# Altium integrated library ON Semi Interface Line Receiver.IntLib: 36 symbols
Pins are listed as number, name and electrical type; pins without a type are passive.

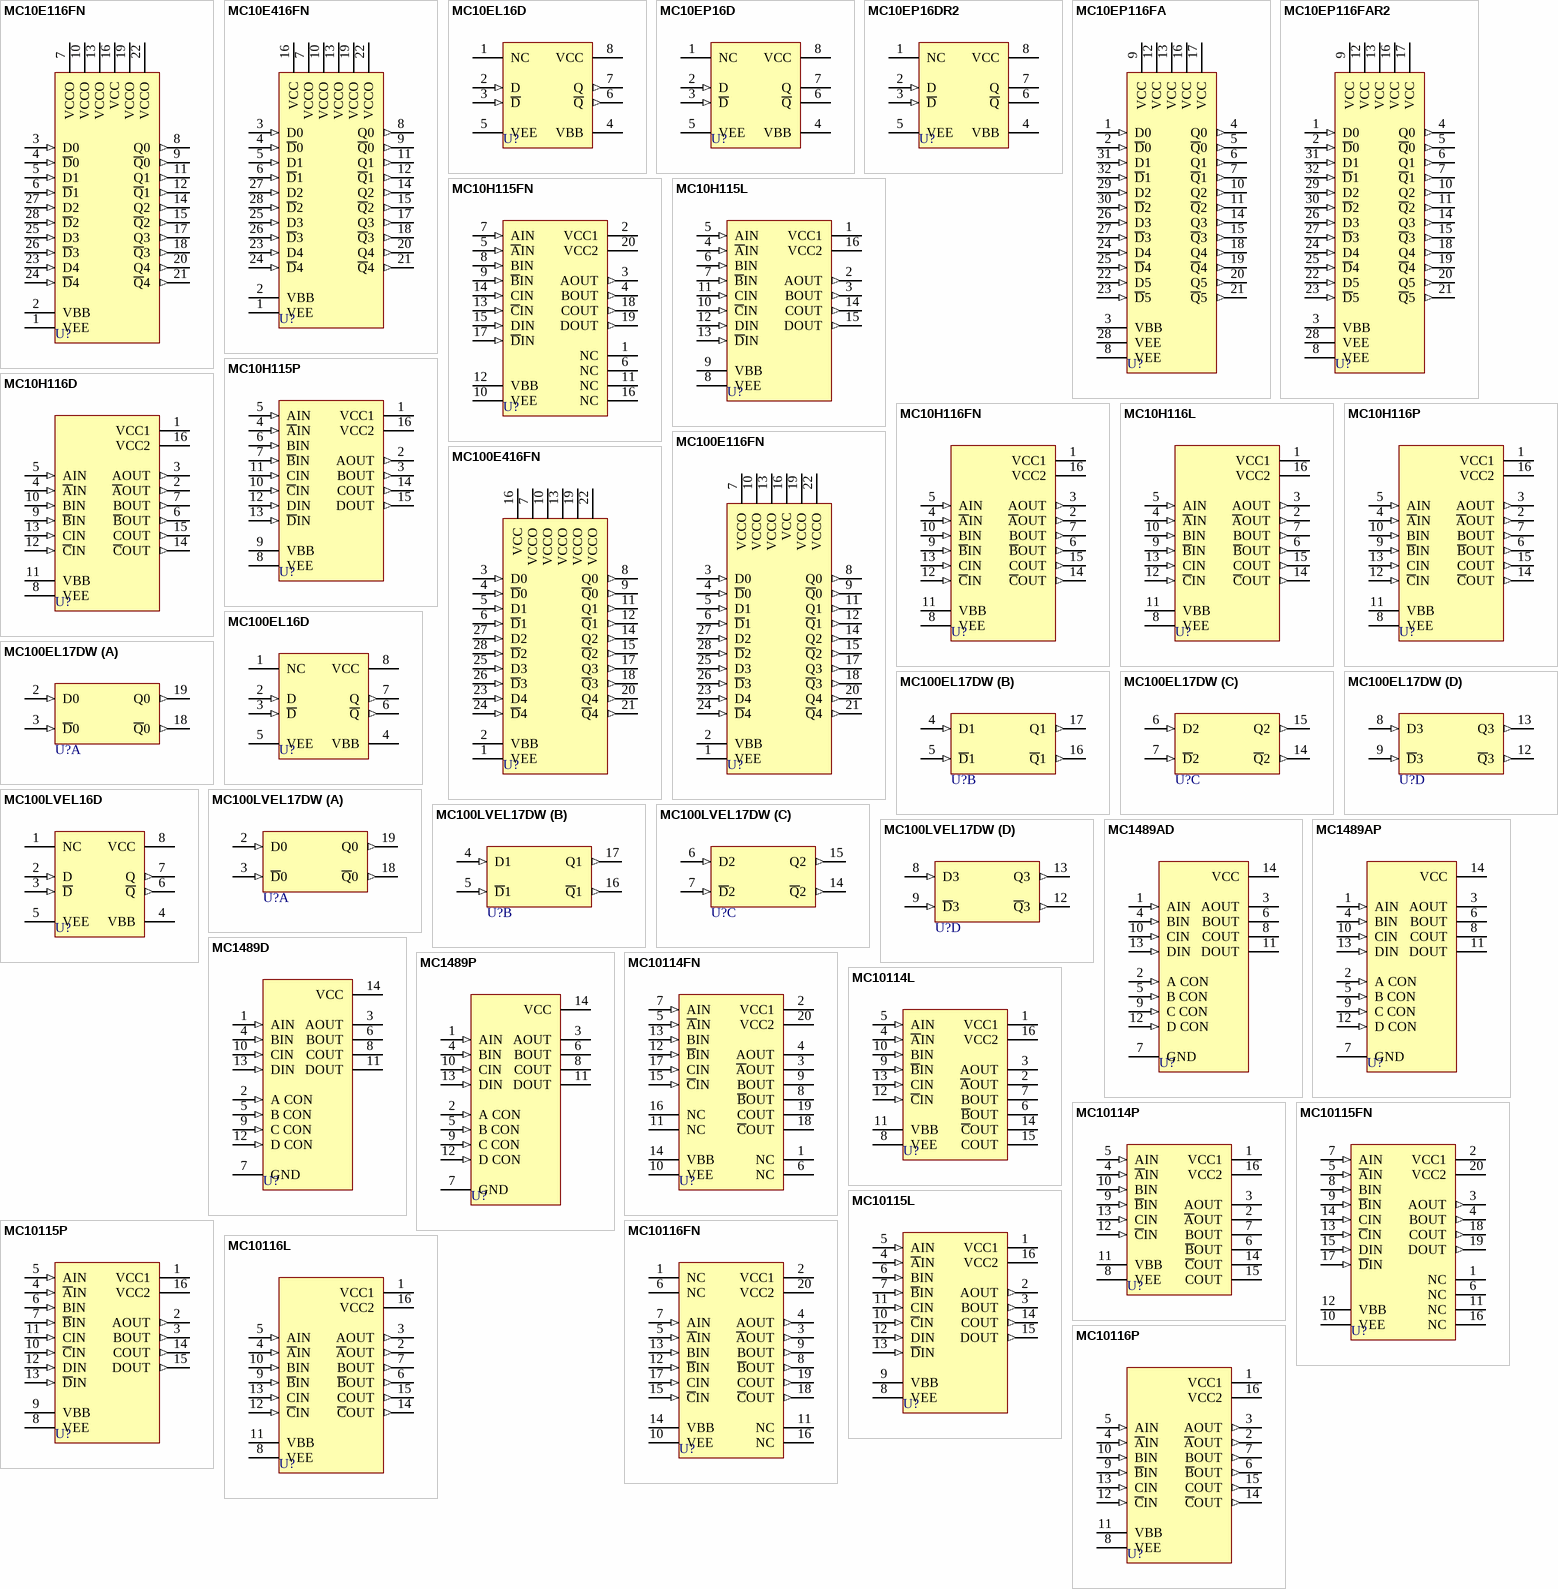
[diagram p0: symbols MC10E116FN to MC10116P]

## MC10E116FN
designator U?
Quint Differential Line Receiver; Published: 15-Apr-2002; LatestRevisionDate: 13-Apr-2006; LatestRevisionNote: IPC-7351 Footprint Added.; DatasheetVersion: 1996; PackageVersion: Feb-2000; PackageReference: 776-02; Publisher: Altium Limited; PackageDescription: 28-Pin Leaded Chip Carrier 1.27 mm Pitch; ComponentLink1Description: Manufacturer Link; ComponentLink1URL: http://www.onsemi.com/; ComponentLink2Description: Datasheet; ComponentLink2URL: http://www.onsemi.com/pub/Collateral/MC10E116-D.PDF
footprint 776-02_N (Leaded Chip Carrier, 28-Leads, Body 11.5x11.5mm, Pitch 1.27mm, IPC Medium Density)
footprint 776-02_L (Leaded Chip Carrier, 28-Leads, Body 11.5x11.5mm, Pitch 1.27mm, IPC High Density)
footprint 776-02_M (Leaded Chip Carrier, 28-Leads, Body 11.5x11.5mm, Pitch 1.27mm, IPC Low Density)
pins: 1 VEE (power), 2 VBB (power), 3 D0 (in), 4 ~{D}0 (in), 5 D1 (in), 6 ~{D}1 (in), 7 VCCO (power), 8 Q0 (out), 9 ~{Q}0 (out), 10 VCCO (power), 11 Q1 (out), 12 ~{Q}1 (out), 13 VCCO (power), 14 Q2 (out), 15 ~{Q}2 (out), 16 VCC (power), 17 Q3 (out), 18 ~{Q}3 (out), 19 VCCO (power), 20 Q4 (out), 21 ~{Q}4 (out), 22 VCCO (power), 23 D4 (in), 24 ~{D}4 (in), 25 D3 (in), 26 ~{D}3 (in), 27 D2 (in), 28 ~{D}2 (in)

## MC10E416FN
designator U?
Quint Differential Line Receiver; Published: 15-Apr-2002; LatestRevisionDate: 13-Apr-2006; LatestRevisionNote: IPC-7351 Footprint Added.; DatasheetVersion: 1996; PackageVersion: Feb-2000; PackageReference: 776-02; Publisher: Altium Limited; PackageDescription: 28-Pin Leaded Chip Carrier 1.27 mm Pitch; ComponentLink1Description: Manufacturer Link; ComponentLink1URL: http://www.onsemi.com/; ComponentLink2Description: Datasheet; ComponentLink2URL: http://www.onsemi.com/pub/Collateral/MC10E416-D.PDF
footprint 776-02_N (Leaded Chip Carrier, 28-Leads, Body 11.5x11.5mm, Pitch 1.27mm, IPC Medium Density)
footprint 776-02_L (Leaded Chip Carrier, 28-Leads, Body 11.5x11.5mm, Pitch 1.27mm, IPC High Density)
footprint 776-02_M (Leaded Chip Carrier, 28-Leads, Body 11.5x11.5mm, Pitch 1.27mm, IPC Low Density)
pins: 1 VEE (power), 2 VBB (power), 3 D0 (in), 4 ~{D}0 (in), 5 D1 (in), 6 ~{D}1 (in), 7 VCCO (power), 8 Q0 (out), 9 ~{Q}0 (out), 10 VCCO (power), 11 Q1 (out), 12 ~{Q}1 (out), 13 VCCO (power), 14 Q2 (out), 15 ~{Q}2 (out), 16 VCC (power), 17 Q3 (out), 18 ~{Q}3 (out), 19 VCCO (power), 20 Q4 (out), 21 ~{Q}4 (out), 22 VCCO (power), 23 D4 (in), 24 ~{D}4 (in), 25 D3 (in), 26 ~{D}3 (in), 27 D2 (in), 28 ~{D}2 (in)

## MC10EL16D
designator U?
Differential Receiver; Published: 15-Apr-2002; LatestRevisionDate: 13-Apr-2006; LatestRevisionNote: IPC-7351 Footprint Added.; DatasheetVersion: 1996; PackageVersion: 1998; PackageReference: 751-05; Publisher: Altium Limited; PackageDescription: 8-Pin Small Outline Integrated Circuit 1.27 mm Pitch; Code_JEDEC: MS-012-AA; Code_IPC: SOIC127P600-8; ComponentLink1Description: Manufacturer Link; ComponentLink1URL: http://www.onsemi.com/; ComponentLink2Description: Datasheet; ComponentLink2URL: http://www.onsemi.com/pub/Collateral/MC10EL16-D.PDF
footprint 751-05_N (SOIC, 8-Leads, Body 4.9x3.9mm, Pitch 1.27mm, IPC Medium Density)
footprint 751-05_L (SOIC, 8-Leads, Body 4.9x3.9mm, Pitch 1.27mm, IPC High Density)
footprint 751-05_M (SOIC, 8-Leads, Body 4.9x3.9mm, Pitch 1.27mm, IPC Low Density)
pins: 1 NC, 2 D (in), 3 ~{D} (in), 4 VBB (power), 5 VEE (power), 6 ~{Q} (out), 7 Q (out), 8 VCC (power)

## MC10EP16D
designator U?
Differential Receiver; Published: 15-Apr-2002; LatestRevisionDate: 13-Apr-2006; LatestRevisionNote: IPC-7351 Footprint Added.; DatasheetVersion: Sep-1999; PackageVersion: Sep-1999; PackageReference: 751-06; Publisher: Altium Limited; PackageDescription: 8-Pin Small Outline Integrated Circuit 1.27 mm Pitch; Code_JEDEC: MS-012-AA; Code_IPC: SOIC127P600-8; ComponentLink1Description: Manufacturer Link; ComponentLink1URL: http://www.onsemi.com/; ComponentLink2Description: Datasheet; ComponentLink2URL: http://www.onsemi.com/pub/Collateral/MC10EP16-D.PDF
footprint 751-06_N (SOIC, 8-Leads, Body 4.9x3.9mm, Pitch 1.27mm, IPC Medium Density)
footprint 751-06_L (SOIC, 8-Leads, Body 4.9x3.9mm, Pitch 1.27mm, IPC High Density)
footprint 751-06_M (SOIC, 8-Leads, Body 4.9x3.9mm, Pitch 1.27mm, IPC Low Density)
pins: 1 NC, 2 D (in), 3 ~{D} (in), 4 VBB (power), 5 VEE (power), 6 ~{Q} (oe), 7 Q (oe), 8 VCC (power)

## MC10EP16DR2
designator U?
Differential Receiver; Published: 15-Apr-2002; LatestRevisionDate: 13-Apr-2006; LatestRevisionNote: IPC-7351 Footprint Added.; DatasheetVersion: Sep-1999; PackageVersion: Sep-1999; PackageReference: 751-06; Publisher: Altium Limited; PackageDescription: 8-Pin Small Outline Integrated Circuit 1.27 mm Pitch; Code_JEDEC: MS-012-AA; Code_IPC: SOIC127P600-8; ComponentLink1Description: Manufacturer Link; ComponentLink1URL: http://www.onsemi.com/; ComponentLink2Description: Datasheet; ComponentLink2URL: http://www.onsemi.com/pub/Collateral/MC10EP16-D.PDF
footprint 751-06_N (SOIC, 8-Leads, Body 4.9x3.9mm, Pitch 1.27mm, IPC Medium Density)
footprint 751-06_L (SOIC, 8-Leads, Body 4.9x3.9mm, Pitch 1.27mm, IPC High Density)
footprint 751-06_M (SOIC, 8-Leads, Body 4.9x3.9mm, Pitch 1.27mm, IPC Low Density)
pins: 1 NC, 2 D (in), 3 ~{D} (in), 4 VBB (power), 5 VEE (power), 6 ~{Q} (oe), 7 Q (oe), 8 VCC (power)

## MC10EP116FA
designator U?
Hex Differential Line Receiver; Published: 15-Apr-2002; LatestRevisionDate: 13-Apr-2006; LatestRevisionNote: IPC-7351 Footprint Added.; DatasheetVersion: Mar-2000; PackageVersion: May-2000; PackageReference: 873A-02; Publisher: Altium Limited; PackageDescription: 32-Pin Thin Quad Flat Pack 0.8 mm Pitch; ComponentLink1Description: Manufacturer Link; ComponentLink1URL: http://www.onsemi.com/; ComponentLink2Description: Datasheet; ComponentLink2URL: http://www.onsemi.com/pub/Collateral/MC10EP116-D.PDF
footprint 873A-02_N (Thin QFP, 32-Leads, Body 7x7mm, Pitch 0.8mm, IPC Medium Density)
footprint 873A-02_L (Thin QFP, 32-Leads, Body 7x7mm, Pitch 0.8mm, IPC High Density)
footprint 873A-02_M (Thin QFP, 32-Leads, Body 7x7mm, Pitch 0.8mm, IPC Low Density)
pins: 1 D0 (in), 2 ~{D}0 (in), 3 VBB (power), 4 Q0 (out), 5 ~{Q}0 (out), 6 Q1 (out), 7 ~{Q}1 (out), 8 VEE (power), 9 VCC (power), 10 Q2 (out), 11 ~{Q}2 (out), 12 VCC (power), 13 VCC (power), 14 Q3 (out), 15 ~{Q}3 (out), 16 VCC (power), 17 VCC (power), 18 Q4 (out), 19 ~{Q}4 (out), 20 Q5 (out), 21 ~{Q}5 (out), 22 D5 (in), 23 ~{D}5 (in), 24 D4 (in), 25 ~{D}4 (in), 26 D3 (in), 27 ~{D}3 (in), 28 VEE (power), 29 D2 (in), 30 ~{D}2 (in), 31 D1 (in), 32 ~{D}1 (in)

## MC10EP116FAR2
designator U?
Hex Differential Line Receiver; Published: 15-Apr-2002; LatestRevisionDate: 13-Apr-2006; LatestRevisionNote: IPC-7351 Footprint Added.; DatasheetVersion: Mar-2000; PackageVersion: May-2000; PackageReference: 873A-02; Publisher: Altium Limited; PackageDescription: 32-Pin Thin Quad Flat Pack 0.8 mm Pitch; ComponentLink1Description: Manufacturer Link; ComponentLink1URL: http://www.onsemi.com/; ComponentLink2Description: Datasheet; ComponentLink2URL: http://www.onsemi.com/pub/Collateral/MC10EP116-D.PDF
footprint 873A-02_N (Thin QFP, 32-Leads, Body 7x7mm, Pitch 0.8mm, IPC Medium Density)
footprint 873A-02_L (Thin QFP, 32-Leads, Body 7x7mm, Pitch 0.8mm, IPC High Density)
footprint 873A-02_M (Thin QFP, 32-Leads, Body 7x7mm, Pitch 0.8mm, IPC Low Density)
pins: 1 D0 (in), 2 ~{D}0 (in), 3 VBB (power), 4 Q0 (out), 5 ~{Q}0 (out), 6 Q1 (out), 7 ~{Q}1 (out), 8 VEE (power), 9 VCC (power), 10 Q2 (out), 11 ~{Q}2 (out), 12 VCC (power), 13 VCC (power), 14 Q3 (out), 15 ~{Q}3 (out), 16 VCC (power), 17 VCC (power), 18 Q4 (out), 19 ~{Q}4 (out), 20 Q5 (out), 21 ~{Q}5 (out), 22 D5 (in), 23 ~{D}5 (in), 24 D4 (in), 25 ~{D}4 (in), 26 D3 (in), 27 ~{D}3 (in), 28 VEE (power), 29 D2 (in), 30 ~{D}2 (in), 31 D1 (in), 32 ~{D}1 (in)

## MC10H115FN
designator U?
Quad Line Receiver; Published: 15-Apr-2002; LatestRevisionDate: 13-Apr-2006; LatestRevisionNote: IPC-7351 Footprint Added.; DatasheetVersion: 1996; PackageVersion: 1996; PackageReference: 775-02; Publisher: Altium Limited; PackageDescription: 20-Pin Leaded Chip Carrier 1.27 mm Pitch; ComponentLink1Description: Manufacturer Link; ComponentLink1URL: http://www.onsemi.com/; ComponentLink2Description: Datasheet; ComponentLink2URL: http://www.onsemi.com/pub/Collateral/MC10H115-D.PDF
footprint 775-02_N (Leaded Chip Carrier, 20-Leads, Body 9x9mm, Pitch 1.27mm, IPC Medium Density)
footprint 775-02_L (Leaded Chip Carrier, 20-Leads, Body 9x9mm, Pitch 1.27mm, IPC High Density)
footprint 775-02_M (Leaded Chip Carrier, 20-Leads, Body 9x9mm, Pitch 1.27mm, IPC Low Density)
pins: 1 NC, 2 VCC1 (power), 3 AOUT (out), 4 BOUT (out), 5 ~{A}IN (in), 6 NC, 7 AIN (in), 8 BIN (in), 9 ~{B}IN (in), 10 VEE (power), 11 NC, 12 VBB (power), 13 ~{C}IN (in), 14 CIN (in), 15 DIN (in), 16 NC, 17 ~{D}IN (in), 18 COUT (out), 19 DOUT (out), 20 VCC2 (power)

## MC10H115L
designator U?
Quad Line Receiver; Published: 15-Apr-2002; DatasheetVersion: 1996; PackageVersion: 1996; PackageReference: 620-10; Publisher: Altium Limited; PackageDescription: DIP; 16 Leads; Row Spacing 7.62 mm; Pitch 2.54 mm; ComponentLink1Description: Manufacturer Link; ComponentLink1URL: http://www.onsemi.com/; ComponentLink2Description: Datasheet; ComponentLink2URL: http://www.onsemi.com/pub/Collateral/MC10H115-D.PDF
footprint 620-10 (DIP; 16 Leads; Row Spacing 7.62 mm; Pitch 2.54 mm)
pins: 1 VCC1 (power), 2 AOUT (out), 3 BOUT (out), 4 ~{A}IN (in), 5 AIN (in), 6 BIN (in), 7 ~{B}IN (in), 8 VEE (power), 9 VBB (power), 10 ~{C}IN (in), 11 CIN (in), 12 DIN (in), 13 ~{D}IN (in), 14 COUT (out), 15 DOUT (out), 16 VCC2 (power)

## MC10H115P
designator U?
Quad Line Receiver; Published: 15-Apr-2002; DatasheetVersion: 1996; PackageVersion: Apr-2000; PackageReference: 648-08; Publisher: Altium Limited; PackageDescription: DIP; 16 Leads; Row Spacing 7.62 mm; Pitch 2.54 mm; Code_JEDEC: MS-001-BB; ComponentLink1Description: Manufacturer Link; ComponentLink1URL: http://www.onsemi.com/; ComponentLink2Description: Datasheet; ComponentLink2URL: http://www.onsemi.com/pub/Collateral/MC10H115-D.PDF
footprint 648-08 (DIP; 16 Leads; Row Spacing 7.62 mm; Pitch 2.54 mm)
pins: 1 VCC1 (power), 2 AOUT (out), 3 BOUT (out), 4 ~{A}IN (in), 5 AIN (in), 6 BIN (in), 7 ~{B}IN (in), 8 VEE (power), 9 VBB (power), 10 ~{C}IN (in), 11 CIN (in), 12 DIN (in), 13 ~{D}IN (in), 14 COUT (out), 15 DOUT (out), 16 VCC2 (power)

## MC10H116D
designator U?
Triple Line Receiver; Published: 15-Apr-2002; LatestRevisionDate: 13-Apr-2006; LatestRevisionNote: IPC-7351 Footprint Added.; DatasheetVersion: 1996; PackageVersion: Oct-1999; PackageReference: 751B-05; Publisher: Altium Limited; PackageDescription: 16-Pin Small Outline Integrated Circuit 1.27 mm Pitch; Code_JEDEC: MS-012-AC; Code_IPC: SOIC127P600-16; ComponentLink1Description: Manufacturer Link; ComponentLink1URL: http://www.onsemi.com/; ComponentLink2Description: Datasheet; ComponentLink2URL: http://www.onsemi.com/pub/Collateral/MC10H116-D.PDF
footprint 751B-05_N (SOIC, 16-Leads, Body 9.9x3.9mm, Pitch 1.27mm, IPC Medium Density)
footprint 751B-05_L (SOIC, 16-Leads, Body 9.9x3.9mm, Pitch 1.27mm, IPC High Density)
footprint 751B-05_M (SOIC, 16-Leads, Body 9.9x3.9mm, Pitch 1.27mm, IPC Low Density)
pins: 1 VCC1 (power), 2 ~{A}OUT (out), 3 AOUT (out), 4 ~{A}IN (in), 5 AIN (in), 6 ~{B}OUT (out), 7 BOUT (out), 8 VEE (power), 9 ~{B}IN (in), 10 BIN (in), 11 VBB (power), 12 ~{C}IN (in), 13 CIN (in), 14 ~{C}OUT (out), 15 COUT (out), 16 VCC2 (power)

## MC10H116FN
designator U?
Triple Line Receiver; Published: 15-Apr-2002; LatestRevisionDate: 13-Apr-2006; LatestRevisionNote: IPC-7351 Footprint Added.; DatasheetVersion: 1996; PackageVersion: 1996; PackageReference: 775-02; Publisher: Altium Limited; PackageDescription: 20-Pin Leaded Chip Carrier 1.27 mm Pitch; ComponentLink1Description: Manufacturer Link; ComponentLink1URL: http://www.onsemi.com/; ComponentLink2Description: Datasheet; ComponentLink2URL: http://www.onsemi.com/pub/Collateral/MC10H116-D.PDF
footprint 775-02_N (Leaded Chip Carrier, 20-Leads, Body 9x9mm, Pitch 1.27mm, IPC Medium Density)
footprint 775-02_L (Leaded Chip Carrier, 20-Leads, Body 9x9mm, Pitch 1.27mm, IPC High Density)
footprint 775-02_M (Leaded Chip Carrier, 20-Leads, Body 9x9mm, Pitch 1.27mm, IPC Low Density)
pins: 1 VCC1 (power), 2 ~{A}OUT (out), 3 AOUT (out), 4 ~{A}IN (in), 5 AIN (in), 6 ~{B}OUT (out), 7 BOUT (out), 8 VEE (power), 9 ~{B}IN (in), 10 BIN (in), 11 VBB (power), 12 ~{C}IN (in), 13 CIN (in), 14 ~{C}OUT (out), 15 COUT (out), 16 VCC2 (power)

## MC10H116L
designator U?
Triple Line Receiver; Published: 15-Apr-2002; DatasheetVersion: 1996; PackageVersion: 1996; PackageReference: 620-10; Publisher: Altium Limited; PackageDescription: DIP; 16 Leads; Row Spacing 7.62 mm; Pitch 2.54 mm; ComponentLink1Description: Manufacturer Link; ComponentLink1URL: http://www.onsemi.com/; ComponentLink2Description: Datasheet; ComponentLink2URL: http://www.onsemi.com/pub/Collateral/MC10H116-D.PDF
footprint 620-10 (DIP; 16 Leads; Row Spacing 7.62 mm; Pitch 2.54 mm)
pins: 1 VCC1 (power), 2 ~{A}OUT (out), 3 AOUT (out), 4 ~{A}IN (in), 5 AIN (in), 6 ~{B}OUT (out), 7 BOUT (out), 8 VEE (power), 9 ~{B}IN (in), 10 BIN (in), 11 VBB (power), 12 ~{C}IN (in), 13 CIN (in), 14 ~{C}OUT (out), 15 COUT (out), 16 VCC2 (power)

## MC10H116P
designator U?
Triple Line Receiver; Published: 15-Apr-2002; DatasheetVersion: 1996; PackageVersion: Apr-2000; PackageReference: 648-08; Publisher: Altium Limited; PackageDescription: DIP; 16 Leads; Row Spacing 7.62 mm; Pitch 2.54 mm; Code_JEDEC: MS-001-BB; ComponentLink1Description: Manufacturer Link; ComponentLink1URL: http://www.onsemi.com/; ComponentLink2Description: Datasheet; ComponentLink2URL: http://www.onsemi.com/pub/Collateral/MC10H116-D.PDF
footprint 648-08 (DIP; 16 Leads; Row Spacing 7.62 mm; Pitch 2.54 mm)
pins: 1 VCC1 (power), 2 ~{A}OUT (out), 3 AOUT (out), 4 ~{A}IN (in), 5 AIN (in), 6 ~{B}OUT (out), 7 BOUT (out), 8 VEE (power), 9 ~{B}IN (in), 10 BIN (in), 11 VBB (power), 12 ~{C}IN (in), 13 CIN (in), 14 ~{C}OUT (out), 15 COUT (out), 16 VCC2 (power)

## MC100E116FN
designator U?
Quint Differential Line Receiver; Published: 15-Apr-2002; LatestRevisionDate: 13-Apr-2006; LatestRevisionNote: IPC-7351 Footprint Added.; DatasheetVersion: 1996; PackageVersion: Feb-2000; PackageReference: 776-02; Publisher: Altium Limited; PackageDescription: 28-Pin Leaded Chip Carrier 1.27 mm Pitch; ComponentLink1Description: Manufacturer Link; ComponentLink1URL: http://www.onsemi.com/; ComponentLink2Description: Datasheet; ComponentLink2URL: http://www.onsemi.com/pub/Collateral/MC10E116-D.PDF
footprint 776-02_N (Leaded Chip Carrier, 28-Leads, Body 11.5x11.5mm, Pitch 1.27mm, IPC Medium Density)
footprint 776-02_L (Leaded Chip Carrier, 28-Leads, Body 11.5x11.5mm, Pitch 1.27mm, IPC High Density)
footprint 776-02_M (Leaded Chip Carrier, 28-Leads, Body 11.5x11.5mm, Pitch 1.27mm, IPC Low Density)
pins: 1 VEE (power), 2 VBB (power), 3 D0 (in), 4 ~{D}0 (in), 5 D1 (in), 6 ~{D}1 (in), 7 VCCO (power), 8 Q0 (out), 9 ~{Q}0 (out), 10 VCCO (power), 11 Q1 (out), 12 ~{Q}1 (out), 13 VCCO (power), 14 Q2 (out), 15 ~{Q}2 (out), 16 VCC (power), 17 Q3 (out), 18 ~{Q}3 (out), 19 VCCO (power), 20 Q4 (out), 21 ~{Q}4 (out), 22 VCCO (power), 23 D4 (in), 24 ~{D}4 (in), 25 D3 (in), 26 ~{D}3 (in), 27 D2 (in), 28 ~{D}2 (in)

## MC100E416FN
designator U?
Quint Differential Line Receiver; Published: 15-Apr-2002; LatestRevisionDate: 13-Apr-2006; LatestRevisionNote: IPC-7351 Footprint Added.; DatasheetVersion: 1996; PackageVersion: Feb-2000; PackageReference: 776-02; Publisher: Altium Limited; PackageDescription: 28-Pin Leaded Chip Carrier 1.27 mm Pitch; ComponentLink1Description: Manufacturer Link; ComponentLink1URL: http://www.onsemi.com/; ComponentLink2Description: Datasheet; ComponentLink2URL: http://www.onsemi.com/pub/Collateral/MC10E416-D.PDF
footprint 776-02_N (Leaded Chip Carrier, 28-Leads, Body 11.5x11.5mm, Pitch 1.27mm, IPC Medium Density)
footprint 776-02_L (Leaded Chip Carrier, 28-Leads, Body 11.5x11.5mm, Pitch 1.27mm, IPC High Density)
footprint 776-02_M (Leaded Chip Carrier, 28-Leads, Body 11.5x11.5mm, Pitch 1.27mm, IPC Low Density)
pins: 1 VEE (power), 2 VBB (power), 3 D0 (in), 4 ~{D}0 (in), 5 D1 (in), 6 ~{D}1 (in), 7 VCCO (power), 8 Q0 (out), 9 ~{Q}0 (out), 10 VCCO (power), 11 Q1 (out), 12 ~{Q}1 (out), 13 VCCO (power), 14 Q2 (out), 15 ~{Q}2 (out), 16 VCC (power), 17 Q3 (out), 18 ~{Q}3 (out), 19 VCCO (power), 20 Q4 (out), 21 ~{Q}4 (out), 22 VCCO (power), 23 D4 (in), 24 ~{D}4 (in), 25 D3 (in), 26 ~{D}3 (in), 27 D2 (in), 28 ~{D}2 (in)

## MC100EL16D
designator U?
Differential Receiver; Published: 15-Apr-2002; LatestRevisionDate: 13-Apr-2006; LatestRevisionNote: IPC-7351 Footprint Added.; DatasheetVersion: 1996; PackageVersion: 1998; PackageReference: 751-05; Publisher: Altium Limited; PackageDescription: 8-Pin Small Outline Integrated Circuit 1.27 mm Pitch; Code_JEDEC: MS-012-AA; Code_IPC: SOIC127P600-8; ComponentLink1Description: Manufacturer Link; ComponentLink1URL: http://www.onsemi.com/; ComponentLink2Description: Datasheet; ComponentLink2URL: http://www.onsemi.com/pub/Collateral/MC10EL16-D.PDF
footprint 751-05_N (SOIC, 8-Leads, Body 4.9x3.9mm, Pitch 1.27mm, IPC Medium Density)
footprint 751-05_L (SOIC, 8-Leads, Body 4.9x3.9mm, Pitch 1.27mm, IPC High Density)
footprint 751-05_M (SOIC, 8-Leads, Body 4.9x3.9mm, Pitch 1.27mm, IPC Low Density)
pins: 1 NC, 2 D (in), 3 ~{D} (in), 4 VBB (power), 5 VEE (power), 6 ~{Q} (out), 7 Q (out), 8 VCC (power)

## MC100EL17DW
designator U?
Low-Voltage Quad Differential Receiver; Published: 15-Apr-2002; LatestRevisionDate: 13-Apr-2006; LatestRevisionNote: IPC-7351 Footprint Added.; DatasheetVersion: 1996; PackageReference: 751D-04; Publisher: Altium Limited; PackageDescription: 20-Pin Small Outline Integrated Circuit 1.27 mm Pitch; ComponentLink1Description: Manufacturer Link; ComponentLink1URL: http://www.onsemi.com/; ComponentLink2Description: Datasheet; ComponentLink2URL: http://www.onsemi.com/pub/Collateral/MC100EL17-D.PDF
footprint 751D-04_N (SOIC, 20-Leads, Body 12.8x7.5mm, Pitch 1.27mm, IPC Medium Density)
footprint 751D-04_L (SOIC, 20-Leads, Body 12.8x7.5mm, Pitch 1.27mm, IPC High Density)
footprint 751D-04_M (SOIC, 20-Leads, Body 12.8x7.5mm, Pitch 1.27mm, IPC Low Density)
pins on every part: 1 VCC (power) hidden to VCC, 10 VBB (power) hidden to VBB, 11 VEE (power) hidden to VEE, 20 VCC (power) hidden to VCC
part A pins: 2 D0 (in), 3 ~{D}0 (in), 18 ~{Q}0 (out), 19 Q0 (out)
part B pins: 4 D1 (in), 5 ~{D}1 (in), 16 ~{Q}1 (out), 17 Q1 (out)
part C pins: 6 D2 (in), 7 ~{D}2 (in), 14 ~{Q}2 (out), 15 Q2 (out)
part D pins: 8 D3 (in), 9 ~{D}3 (in), 12 ~{Q}3 (out), 13 Q3 (out)

## MC100LVEL16D
designator U?
Differential Receiver; Published: 15-Apr-2002; LatestRevisionDate: 13-Apr-2006; LatestRevisionNote: IPC-7351 Footprint Added.; DatasheetVersion: 1996; PackageVersion: 1998; PackageReference: 751-05; Publisher: Altium Limited; PackageDescription: 8-Pin Small Outline Integrated Circuit 1.27 mm Pitch; Code_JEDEC: MS-012-AA; Code_IPC: SOIC127P600-8; ComponentLink1Description: Manufacturer Link; ComponentLink1URL: http://www.onsemi.com/; ComponentLink2Description: Datasheet; ComponentLink2URL: http://www.onsemi.com/pub/Collateral/MC100LVEL16-D.PDF
footprint 751-05_N (SOIC, 8-Leads, Body 4.9x3.9mm, Pitch 1.27mm, IPC Medium Density)
footprint 751-05_L (SOIC, 8-Leads, Body 4.9x3.9mm, Pitch 1.27mm, IPC High Density)
footprint 751-05_M (SOIC, 8-Leads, Body 4.9x3.9mm, Pitch 1.27mm, IPC Low Density)
pins: 1 NC, 2 D (in), 3 ~{D} (in), 4 VBB (power), 5 VEE (power), 6 ~{Q} (out), 7 Q (out), 8 VCC (power)

## MC100LVEL17DW
designator U?
Low-Voltage Quad Differential Receiver; Published: 15-Apr-2002; LatestRevisionDate: 13-Apr-2006; LatestRevisionNote: IPC-7351 Footprint Added.; DatasheetVersion: 1996; PackageReference: 751D-04; Publisher: Altium Limited; PackageDescription: 20-Pin Small Outline Integrated Circuit 1.27 mm Pitch; ComponentLink1Description: Manufacturer Link; ComponentLink1URL: http://www.onsemi.com/; ComponentLink2Description: Datasheet; ComponentLink2URL: http://www.onsemi.com/pub/Collateral/MC100EL17-D.PDF
footprint 751D-04_N (SOIC, 20-Leads, Body 12.8x7.5mm, Pitch 1.27mm, IPC Medium Density)
footprint 751D-04_L (SOIC, 20-Leads, Body 12.8x7.5mm, Pitch 1.27mm, IPC High Density)
footprint 751D-04_M (SOIC, 20-Leads, Body 12.8x7.5mm, Pitch 1.27mm, IPC Low Density)
pins on every part: 1 VCC (power) hidden to VCC, 10 VBB (power) hidden to VBB, 11 VEE (power) hidden to VEE, 20 VCC (power) hidden to VCC
part A pins: 2 D0 (in), 3 ~{D}0 (in), 18 ~{Q}0 (out), 19 Q0 (out)
part B pins: 4 D1 (in), 5 ~{D}1 (in), 16 ~{Q}1 (out), 17 Q1 (out)
part C pins: 6 D2 (in), 7 ~{D}2 (in), 14 ~{Q}2 (out), 15 Q2 (out)
part D pins: 8 D3 (in), 9 ~{D}3 (in), 12 ~{Q}3 (out), 13 Q3 (out)

## MC1489AD
designator U?
Quad Line Receiver; Published: 15-Apr-2002; LatestRevisionDate: 13-Apr-2006; LatestRevisionNote: IPC-7351 Footprint Added.; DatasheetVersion: 1996; PackageReference: 751A-03; Publisher: Altium Limited; PackageDescription: 14-Pin Small Outline Integrated Circuit 1.27 mm Pitch; Code_JEDEC: MS-012-AB; Code_IPC: SOIC127P600-14; ComponentLink1Description: Manufacturer Link; ComponentLink1URL: http://www.onsemi.com/; ComponentLink2Description: Datasheet; ComponentLink2URL: http://www.onsemi.com/pub/Collateral/MC1489-D.PDF
footprint 751A-03_N (SOIC, 14-Leads, Body 8.7x3.9mm, Pitch 1.27mm, IPC Medium Density)
footprint 751A-03_L (SOIC, 14-Leads, Body 8.7x3.9mm, Pitch 1.27mm, IPC High Density)
footprint 751A-03_M (SOIC, 14-Leads, Body 8.7x3.9mm, Pitch 1.27mm, IPC Low Density)
pins: 1 AIN (in), 2 A CON (in), 3 AOUT (oc), 4 BIN (in), 5 B CON (in), 6 BOUT (oc), 7 GND (power), 8 COUT (oc), 9 C CON (in), 10 CIN (in), 11 DOUT (oc), 12 D CON (in), 13 DIN (in), 14 VCC (power)

## MC1489AP
designator U?
Quad Line Receiver; Published: 15-Apr-2002; DatasheetVersion: 1996; PackageVersion: 1995; PackageReference: 646-06; Publisher: Altium Limited; PackageDescription: DIP; 14 Leads; Row Spacing 7.62 mm; Pitch 2.54 mm; ComponentLink1Description: Manufacturer Link; ComponentLink1URL: http://www.onsemi.com/; ComponentLink2Description: Datasheet; ComponentLink2URL: http://www.onsemi.com/pub/Collateral/MC1489-D.PDF
footprint 646-06 (DIP; 14 Leads; Row Spacing 7.62 mm; Pitch 2.54 mm)
pins: 1 AIN (in), 2 A CON (in), 3 AOUT (oc), 4 BIN (in), 5 B CON (in), 6 BOUT (oc), 7 GND (power), 8 COUT (oc), 9 C CON (in), 10 CIN (in), 11 DOUT (oc), 12 D CON (in), 13 DIN (in), 14 VCC (power)

## MC1489D
designator U?
Quad Line Receiver; Published: 15-Apr-2002; LatestRevisionDate: 13-Apr-2006; LatestRevisionNote: IPC-7351 Footprint Added.; DatasheetVersion: 1996; PackageReference: 751A-03; Publisher: Altium Limited; PackageDescription: 14-Pin Small Outline Integrated Circuit 1.27 mm Pitch; Code_JEDEC: MS-012-AB; Code_IPC: SOIC127P600-14; ComponentLink1Description: Manufacturer Link; ComponentLink1URL: http://www.onsemi.com/; ComponentLink2Description: Datasheet; ComponentLink2URL: http://www.onsemi.com/pub/Collateral/MC1489-D.PDF
footprint 751A-03_N (SOIC, 14-Leads, Body 8.7x3.9mm, Pitch 1.27mm, IPC Medium Density)
footprint 751A-03_L (SOIC, 14-Leads, Body 8.7x3.9mm, Pitch 1.27mm, IPC High Density)
footprint 751A-03_M (SOIC, 14-Leads, Body 8.7x3.9mm, Pitch 1.27mm, IPC Low Density)
pins: 1 AIN (in), 2 A CON (in), 3 AOUT (oc), 4 BIN (in), 5 B CON (in), 6 BOUT (oc), 7 GND (power), 8 COUT (oc), 9 C CON (in), 10 CIN (in), 11 DOUT (oc), 12 D CON (in), 13 DIN (in), 14 VCC (power)

## MC1489P
designator U?
Quad Line Receiver; Published: 15-Apr-2002; DatasheetVersion: 1996; PackageVersion: 1995; PackageReference: 646-06; Publisher: Altium Limited; PackageDescription: DIP; 14 Leads; Row Spacing 7.62 mm; Pitch 2.54 mm; ComponentLink1Description: Manufacturer Link; ComponentLink1URL: http://www.onsemi.com/; ComponentLink2Description: Datasheet; ComponentLink2URL: http://www.onsemi.com/pub/Collateral/MC1489-D.PDF
footprint 646-06 (DIP; 14 Leads; Row Spacing 7.62 mm; Pitch 2.54 mm)
pins: 1 AIN (in), 2 A CON (in), 3 AOUT (oc), 4 BIN (in), 5 B CON (in), 6 BOUT (oc), 7 GND (power), 8 COUT (oc), 9 C CON (in), 10 CIN (in), 11 DOUT (oc), 12 D CON (in), 13 DIN (in), 14 VCC (power)

## MC10114FN
designator U?
Triple Line Receiver; ComponentAvailability: Not for New Design; Published: 15-Apr-2002; LatestRevisionDate: 13-Apr-2006; LatestRevisionNote: IPC-7351 Footprint Added.; DatasheetVersion: 1996; PackageVersion: 1996; PackageReference: 775-02; Publisher: Altium Limited; PackageDescription: 20-Pin Leaded Chip Carrier 1.27 mm Pitch; ComponentLink1Description: Manufacturer Link; ComponentLink1URL: http://www.onsemi.com/; ComponentLink2Description: Datasheet; ComponentLink2URL: http://www.onsemi.com/pub/Collateral/MC10114-D.PDF
footprint 775-02_N (Leaded Chip Carrier, 20-Leads, Body 9x9mm, Pitch 1.27mm, IPC Medium Density)
footprint 775-02_L (Leaded Chip Carrier, 20-Leads, Body 9x9mm, Pitch 1.27mm, IPC High Density)
footprint 775-02_M (Leaded Chip Carrier, 20-Leads, Body 9x9mm, Pitch 1.27mm, IPC Low Density)
pins: 1 NC, 2 VCC1 (power), 3 ~{A}OUT (oe), 4 AOUT (oe), 5 ~{A}IN (in), 6 NC, 7 AIN (in), 8 ~{B}OUT (oe), 9 BOUT (oe), 10 VEE (power), 11 NC, 12 ~{B}IN (in), 13 BIN (in), 14 VBB (power), 15 ~{C}IN (in), 16 NC, 17 CIN (in), 18 ~{C}OUT (oe), 19 COUT (oe), 20 VCC2 (power)

## MC10114L
designator U?
Triple Line Receiver; ComponentAvailability: Not for New Design; Published: 15-Apr-2002; DatasheetVersion: 1996; PackageVersion: 1996; PackageReference: 620-10; Publisher: Altium Limited; PackageDescription: DIP; 16 Leads; Row Spacing 7.62 mm; Pitch 2.54 mm; ComponentLink1Description: Manufacturer Link; ComponentLink1URL: http://www.onsemi.com/; ComponentLink2Description: Datasheet; ComponentLink2URL: http://www.onsemi.com/pub/Collateral/MC10114-D.PDF
footprint 620-10 (DIP; 16 Leads; Row Spacing 7.62 mm; Pitch 2.54 mm)
pins: 1 VCC1 (power), 2 ~{A}OUT (oe), 3 AOUT (oe), 4 ~{A}IN (in), 5 AIN (in), 6 ~{B}OUT (oe), 7 BOUT (oe), 8 VEE (power), 9 ~{B}IN (in), 10 BIN (in), 11 VBB (power), 12 ~{C}IN (in), 13 CIN (in), 14 ~{C}OUT (oe), 15 COUT (oe), 16 VCC2 (power)

## MC10114P
designator U?
Triple Line Receiver; ComponentAvailability: Not for New Design; Published: 15-Apr-2002; DatasheetVersion: 1996; PackageVersion: Apr-2000; PackageReference: 648-08; Publisher: Altium Limited; PackageDescription: DIP; 16 Leads; Row Spacing 7.62 mm; Pitch 2.54 mm; Code_JEDEC: MS-001-BB; ComponentLink1Description: Manufacturer Link; ComponentLink1URL: http://www.onsemi.com/; ComponentLink2Description: Datasheet; ComponentLink2URL: http://www.onsemi.com/pub/Collateral/MC10114-D.PDF
footprint 648-08 (DIP; 16 Leads; Row Spacing 7.62 mm; Pitch 2.54 mm)
pins: 1 VCC1 (power), 2 ~{A}OUT (oe), 3 AOUT (oe), 4 ~{A}IN (in), 5 AIN (in), 6 ~{B}OUT (oe), 7 BOUT (oe), 8 VEE (power), 9 ~{B}IN (in), 10 BIN (in), 11 VBB (power), 12 ~{C}IN (in), 13 CIN (in), 14 ~{C}OUT (oe), 15 COUT (oe), 16 VCC2 (power)

## MC10115FN
designator U?
Quad Line Receiver; Published: 15-Apr-2002; LatestRevisionDate: 13-Apr-2006; LatestRevisionNote: IPC-7351 Footprint Added.; DatasheetVersion: 1996; PackageVersion: 1996; PackageReference: 775-02; Publisher: Altium Limited; PackageDescription: 20-Pin Leaded Chip Carrier 1.27 mm Pitch; ComponentLink1Description: Manufacturer Link; ComponentLink1URL: http://www.onsemi.com/; ComponentLink2Description: Datasheet; ComponentLink2URL: http://www.onsemi.com/pub/Collateral/MC10115-D.PDF
footprint 775-02_N (Leaded Chip Carrier, 20-Leads, Body 9x9mm, Pitch 1.27mm, IPC Medium Density)
footprint 775-02_L (Leaded Chip Carrier, 20-Leads, Body 9x9mm, Pitch 1.27mm, IPC High Density)
footprint 775-02_M (Leaded Chip Carrier, 20-Leads, Body 9x9mm, Pitch 1.27mm, IPC Low Density)
pins: 1 NC, 2 VCC1 (power), 3 AOUT (out), 4 BOUT (out), 5 ~{A}IN (in), 6 NC, 7 AIN (in), 8 BIN (in), 9 ~{B}IN (in), 10 VEE (power), 11 NC, 12 VBB (power), 13 ~{C}IN (in), 14 CIN (in), 15 DIN (in), 16 NC, 17 ~{D}IN (in), 18 COUT (out), 19 DOUT (out), 20 VCC2 (power)

## MC10115L
designator U?
Quad Line Receiver; Published: 15-Apr-2002; DatasheetVersion: 1996; PackageVersion: 1996; PackageReference: 620-10; Publisher: Altium Limited; PackageDescription: DIP; 16 Leads; Row Spacing 7.62 mm; Pitch 2.54 mm; ComponentLink1Description: Manufacturer Link; ComponentLink1URL: http://www.onsemi.com/; ComponentLink2Description: Datasheet; ComponentLink2URL: http://www.onsemi.com/pub/Collateral/MC10115-D.PDF
footprint 620-10 (DIP; 16 Leads; Row Spacing 7.62 mm; Pitch 2.54 mm)
pins: 1 VCC1 (power), 2 AOUT (out), 3 BOUT (out), 4 ~{A}IN (in), 5 AIN (in), 6 BIN (in), 7 ~{B}IN (in), 8 VEE (power), 9 VBB (power), 10 ~{C}IN (in), 11 CIN (in), 12 DIN (in), 13 ~{D}IN (in), 14 COUT (out), 15 DOUT (out), 16 VCC2 (power)

## MC10115P
designator U?
Quad Line Receiver; Published: 15-Apr-2002; DatasheetVersion: 1996; PackageVersion: Apr-2000; PackageReference: 648-08; Publisher: Altium Limited; PackageDescription: DIP; 16 Leads; Row Spacing 7.62 mm; Pitch 2.54 mm; Code_JEDEC: MS-001-BB; ComponentLink1Description: Manufacturer Link; ComponentLink1URL: http://www.onsemi.com/; ComponentLink2Description: Datasheet; ComponentLink2URL: http://www.onsemi.com/pub/Collateral/MC10115-D.PDF
footprint 648-08 (DIP; 16 Leads; Row Spacing 7.62 mm; Pitch 2.54 mm)
pins: 1 VCC1 (power), 2 AOUT (out), 3 BOUT (out), 4 ~{A}IN (in), 5 AIN (in), 6 BIN (in), 7 ~{B}IN (in), 8 VEE (power), 9 VBB (power), 10 ~{C}IN (in), 11 CIN (in), 12 DIN (in), 13 ~{D}IN (in), 14 COUT (out), 15 DOUT (out), 16 VCC2 (power)

## MC10116FN
designator U?
Triple Line Receiver; ComponentAvailability: Not for New Design; Published: 15-Apr-2002; LatestRevisionDate: 13-Apr-2006; LatestRevisionNote: IPC-7351 Footprint Added.; DatasheetVersion: 1996; PackageVersion: 1996; PackageReference: 775-02; Publisher: Altium Limited; PackageDescription: 20-Pin Leaded Chip Carrier 1.27 mm Pitch; ComponentLink1Description: Manufacturer Link; ComponentLink1URL: http://www.onsemi.com/; ComponentLink2Description: Datasheet; ComponentLink2URL: http://www.onsemi.com/pub/Collateral/MC10116-D.PDF
footprint 775-02_N (Leaded Chip Carrier, 20-Leads, Body 9x9mm, Pitch 1.27mm, IPC Medium Density)
footprint 775-02_L (Leaded Chip Carrier, 20-Leads, Body 9x9mm, Pitch 1.27mm, IPC High Density)
footprint 775-02_M (Leaded Chip Carrier, 20-Leads, Body 9x9mm, Pitch 1.27mm, IPC Low Density)
pins: 1 NC, 2 VCC1 (power), 3 ~{A}OUT (out), 4 AOUT (out), 5 ~{A}IN (in), 6 NC, 7 AIN (in), 8 ~{B}OUT (out), 9 BOUT (out), 10 VEE (power), 11 NC, 12 ~{B}IN (in), 13 BIN (in), 14 VBB (power), 15 ~{C}IN (in), 16 NC, 17 CIN (in), 18 ~{C}OUT (out), 19 COUT (out), 20 VCC2 (power)

## MC10116L
designator U?
Triple Line Receiver; ComponentAvailability: Not for New Design; Published: 15-Apr-2002; DatasheetVersion: 1996; PackageVersion: 1996; PackageReference: 620-10; Publisher: Altium Limited; PackageDescription: DIP; 16 Leads; Row Spacing 7.62 mm; Pitch 2.54 mm; ComponentLink1Description: Manufacturer Link; ComponentLink1URL: http://www.onsemi.com/; ComponentLink2Description: Datasheet; ComponentLink2URL: http://www.onsemi.com/pub/Collateral/MC10116-D.PDF
footprint 620-10 (DIP; 16 Leads; Row Spacing 7.62 mm; Pitch 2.54 mm)
pins: 1 VCC1 (power), 2 ~{A}OUT (out), 3 AOUT (out), 4 ~{A}IN (in), 5 AIN (in), 6 ~{B}OUT (out), 7 BOUT (out), 8 VEE (power), 9 ~{B}IN (in), 10 BIN (in), 11 VBB (power), 12 ~{C}IN (in), 13 CIN (in), 14 ~{C}OUT (out), 15 COUT (out), 16 VCC2 (power)

## MC10116P
designator U?
Triple Line Receiver; ComponentAvailability: Not for New Design; Published: 15-Apr-2002; DatasheetVersion: 1996; PackageVersion: Apr-2000; PackageReference: 648-08; Publisher: Altium Limited; PackageDescription: DIP; 16 Leads; Row Spacing 7.62 mm; Pitch 2.54 mm; Code_JEDEC: MS-001-BB; ComponentLink1Description: Manufacturer Link; ComponentLink1URL: http://www.onsemi.com/; ComponentLink2Description: Datasheet; ComponentLink2URL: http://www.onsemi.com/pub/Collateral/MC10116-D.PDF
footprint 648-08 (DIP; 16 Leads; Row Spacing 7.62 mm; Pitch 2.54 mm)
pins: 1 VCC1 (power), 2 ~{A}OUT (out), 3 AOUT (out), 4 ~{A}IN (in), 5 AIN (in), 6 ~{B}OUT (out), 7 BOUT (out), 8 VEE (power), 9 ~{B}IN (in), 10 BIN (in), 11 VBB (power), 12 ~{C}IN (in), 13 CIN (in), 14 ~{C}OUT (out), 15 COUT (out), 16 VCC2 (power)

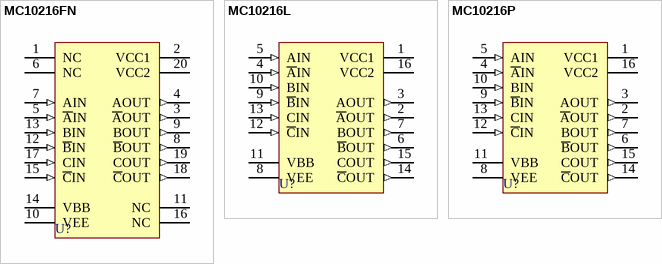
[diagram p1: symbols MC10216FN to MC10216P]

## MC10216FN
designator U?
High-Speed Triple Line Receiver; ComponentAvailability: Not for New Design; Published: 15-Apr-2002; LatestRevisionDate: 13-Apr-2006; LatestRevisionNote: IPC-7351 Footprint Added.; DatasheetVersion: 1996; PackageVersion: 1996; PackageReference: 775-02; Publisher: Altium Limited; PackageDescription: 20-Pin Leaded Chip Carrier 1.27 mm Pitch; ComponentLink1Description: Manufacturer Link; ComponentLink1URL: http://www.onsemi.com/; ComponentLink2Description: Datasheet; ComponentLink2URL: http://www.onsemi.com/pub/Collateral/MC10216-D.PDF
footprint 775-02_N (Leaded Chip Carrier, 20-Leads, Body 9x9mm, Pitch 1.27mm, IPC Medium Density)
footprint 775-02_L (Leaded Chip Carrier, 20-Leads, Body 9x9mm, Pitch 1.27mm, IPC High Density)
footprint 775-02_M (Leaded Chip Carrier, 20-Leads, Body 9x9mm, Pitch 1.27mm, IPC Low Density)
pins: 1 NC, 2 VCC1 (power), 3 ~{A}OUT (out), 4 AOUT (out), 5 ~{A}IN (in), 6 NC, 7 AIN (in), 8 ~{B}OUT (out), 9 BOUT (out), 10 VEE (power), 11 NC, 12 ~{B}IN (in), 13 BIN (in), 14 VBB (power), 15 ~{C}IN (in), 16 NC, 17 CIN (in), 18 ~{C}OUT (out), 19 COUT (out), 20 VCC2 (power)

## MC10216L
designator U?
High-Speed Triple Line Receiver; ComponentAvailability: Not for New Design; Published: 15-Apr-2002; DatasheetVersion: 1996; PackageVersion: 1996; PackageReference: 620-10; Publisher: Altium Limited; PackageDescription: DIP; 16 Leads; Row Spacing 7.62 mm; Pitch 2.54 mm; ComponentLink1Description: Manufacturer Link; ComponentLink1URL: http://www.onsemi.com/; ComponentLink2Description: Datasheet; ComponentLink2URL: http://www.onsemi.com/pub/Collateral/MC10216-D.PDF
footprint 620-10 (DIP; 16 Leads; Row Spacing 7.62 mm; Pitch 2.54 mm)
pins: 1 VCC1 (power), 2 ~{A}OUT (out), 3 AOUT (out), 4 ~{A}IN (in), 5 AIN (in), 6 ~{B}OUT (out), 7 BOUT (out), 8 VEE (power), 9 ~{B}IN (in), 10 BIN (in), 11 VBB (power), 12 ~{C}IN (in), 13 CIN (in), 14 ~{C}OUT (out), 15 COUT (out), 16 VCC2 (power)

## MC10216P
designator U?
High-Speed Triple Line Receiver; ComponentAvailability: Not for New Design; Published: 15-Apr-2002; DatasheetVersion: 1996; PackageVersion: Apr-2000; PackageReference: 648-08; Publisher: Altium Limited; PackageDescription: DIP; 16 Leads; Row Spacing 7.62 mm; Pitch 2.54 mm; Code_JEDEC: MS-001-BB; ComponentLink1Description: Manufacturer Link; ComponentLink1URL: http://www.onsemi.com/; ComponentLink2Description: Datasheet; ComponentLink2URL: http://www.onsemi.com/pub/Collateral/MC10216-D.PDF
footprint 648-08 (DIP; 16 Leads; Row Spacing 7.62 mm; Pitch 2.54 mm)
pins: 1 VCC1 (power), 2 ~{A}OUT (out), 3 AOUT (out), 4 ~{A}IN (in), 5 AIN (in), 6 ~{B}OUT (out), 7 BOUT (out), 8 VEE (power), 9 ~{B}IN (in), 10 BIN (in), 11 VBB (power), 12 ~{C}IN (in), 13 CIN (in), 14 ~{C}OUT (out), 15 COUT (out), 16 VCC2 (power)